# Altium footprint library 主控.PcbLib: 4 footprints
Each footprint in its own frame and in the unit in brackets; x right, y up, seen from the top. Pads: shape width x height; smd on the part's side, far side on the other; paste and mask are expansions set on the pad; w line width, h text height; cw(c..) or ccw(c..) is an arc to the next point about the centre after c.
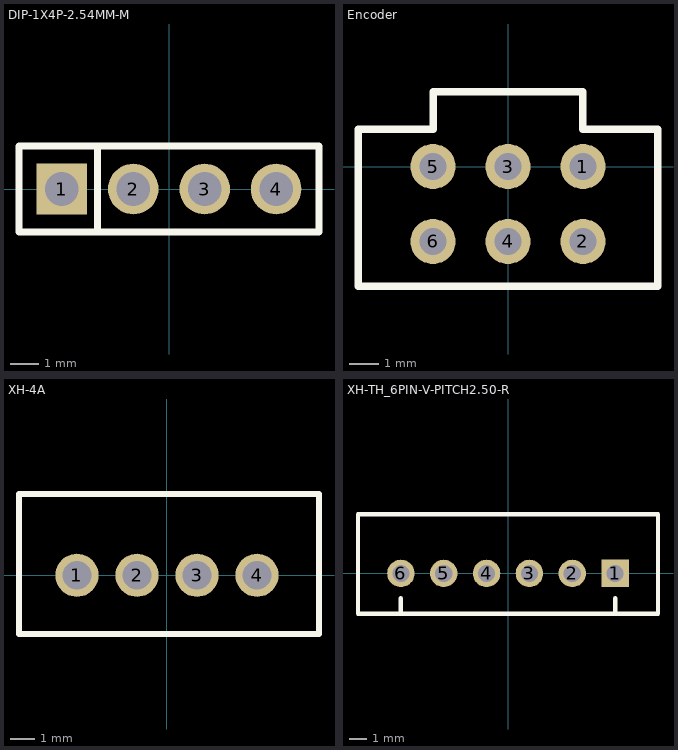
[diagram p0: the footprints below, top view; thin cyan lines are the x and y axes]

## DIP-1X4P-2.54MM-M [mm]
pads (4):
  rect 1.8x1.8 hole 1.2: 1(-3.81,0)
  round 1.8 hole 1.2: 2(-1.27,0) 3(1.27,0) 4(3.81,0)
Top Overlay:
  lines w0.254: -2.54,-1.524 -2.54,1.524 ; -5.334,-1.524 5.334,-1.524 5.334,1.524 -5.334,1.524 -5.334,-1.524

## Encoder [mil]
pads (6):
  round 60 hole 36: 1(100,0) 2(100,-100) 3(0,0) 4(0,-100) 5(-100,0) 6(-100,-100)
Top Overlay:
  lines w10: -200,-160 200,-160 200,50 100,50 100,100 -100,100 -100,50 -200,50 -200,-160

## XH-4A [mm]
pads (4):
  round 1.8 hole 1.199: 1(-3.75,0) 2(-1.248,0) 3(1.251,0) 4(3.75,0)
Top Overlay:
  lines w0.254: -6.166,-2.432 -6.166,3.368 ; -6.163,-2.438 6.333,-2.438 ; -6.163,3.378 6.333,3.378 6.333,-2.413

## XH-TH_6PIN-V-PITCH2.50-R [mm]
pads (6):
  rect 1.6x1.6 hole 1: 1(6.25,0)
  round 1.6 hole 1: 2(3.75,0) 3(1.25,0) 4(-1.25,0) 5(-3.75,0) 6(-6.25,0)
Top Overlay:
  lines w0.254: -6.25,-2.349 -6.25,-1.45 ; 6.25,-2.35 6.25,-1.45 ; -8.75,-2.35 8.75,-2.35 8.75,3.45 -8.75,3.45 -8.75,-2.35